# EAGLE library part ESP-12F (library 1_domaci)
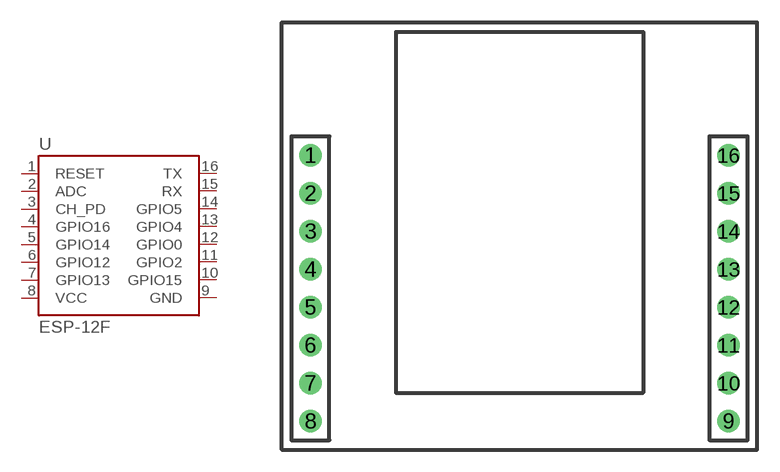
[diagram p8: symbol with the pads of ESP-12F-ADAPTER; footprint ESP-12F-ADAPTER]

Designator prefix U

## ESP-12F  [ESP-12F-ADAPTER]
1  RESET
2  ADC
3  CH_PD
4  GPIO16
5  GPIO14
6  GPIO12
7  GPIO13
8  VCC  pwr
9  GND  pwr
10  GPIO15
11  GPIO2
12  GPIO0
13  GPIO4
14  GPIO5
15  RX
16  TX

## Footprint ESP-12F-ADAPTER (pad centres in mm)
drill 1: 1 -13.97,5.715; 2 -13.97,3.175; 3 -13.97,0.635; 4 -13.97,-1.905; 5 -13.97,-4.445; 6 -13.97,-6.985; 7 -13.97,-9.525; 8 -13.97,-12.065; 9 13.97,-12.065; 10 13.97,-9.525; 11 13.97,-6.985; 12 13.97,-4.445; 13 13.97,-1.905; 14 13.97,0.635; 15 13.97,3.175; 16 13.97,5.715